# Altium schematic symbol library SCH_Battery.SchLib: 2 symbols
Pins are listed as number, name and electrical type; pins without a type are passive.

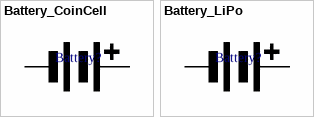
[diagram p0: symbols Battery_CoinCell to Battery_LiPo]

## Battery_CoinCell
designator Battery?, comment CR2030  (value not drawn)
Coin Cell Battery CR2030
footprint CR2032-1
pins: 1 -, 2 +

## Battery_LiPo
designator Battery?, comment Li-Po Battery  (value not drawn)
Li-Po Rechargable Battery
footprint HDR1X2_2.54_180
pins: 1 -, 2 +